# EAGLE library part Q-154818 (library con-erni)
Male Connector SMC-Q 12 contacts Type 7-13 - Low Profile Source: http://www.erni.com/DB/PDF-Drawing/SMC/154818.pdf
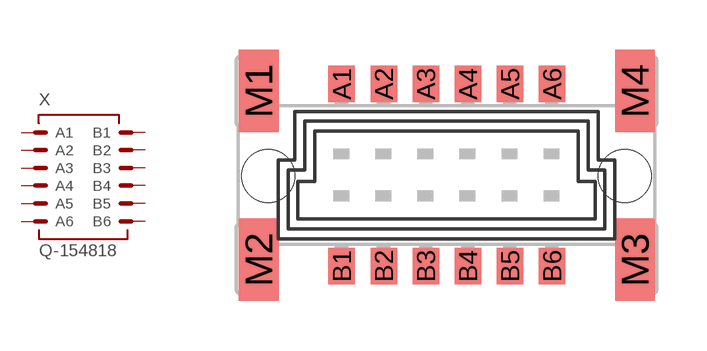
[diagram p10: symbol with the pads of 154818; footprint 154818]

Designator prefix X

## Q-154818 (OC_FARNELL: unknown; OC_NEWARK: unknown)  [154818]
A1  A1  pas
A2  A2  pas
A3  A3  pas
A4  A4  pas
A5  A5  pas
A6  A6  pas
B1  B1  pas
B2  B2  pas
B3  B3  pas
B4  B4  pas
B5  B5  pas
B6  B6  pas

## Footprint 154818 (pad centres in mm)
Male Connector SMC-Q 12 contacts Type 7-13 - Low Profile Source: http://www.erni.com/DB/PDF-Drawing/SMC/154818.pdf
smd 0.8 x 1.1: A1 -3.175,2.765; A2 -1.905,2.765; A3 -0.635,2.765; A4 0.635,2.765; A5 1.905,2.765; A6 3.175,2.765; B1 -3.175,-2.74; B2 -1.905,-2.74; B3 -0.635,-2.74; B4 0.635,-2.74; B5 1.905,-2.74; B6 3.175,-2.74
smd 1.2 x 2.5: M1 -5.68,2.55; M2 -5.68,-2.55; M3 5.68,-2.55; M4 5.68,2.55